# Altium schematic symbol library LT3680EMSE&hash_TRPBF.SchLib: 2 symbols
Pins are listed as number, name and electrical type; pins without a type are passive.

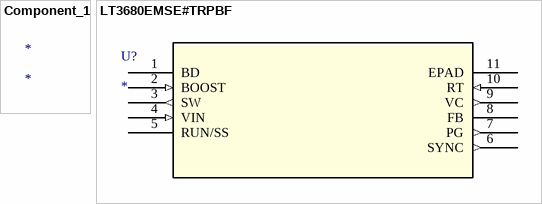
[diagram p0: symbols Component_1 to LT3680EMSE#TRPBF]

## Component_1
designator *

## LT3680EMSE#TRPBF
designator U?
No Description Available; Mfr_Name: Analog Devices Inc; RefDes: RefDes; Type: Type
footprint MSOP-10_MSE_LIT
pins: 1 BD, 2 BOOST (in), 3 SW (out), 4 VIN (in), 5 RUN/SS, 6 SYNC (out), 7 PG (out), 8 FB, 9 VC (out), 10 RT (in), 11 EPAD